# Altium schematic symbol library diode.schlib: 36 symbols
Pins are listed as number, name and electrical type; pins without a type are passive.

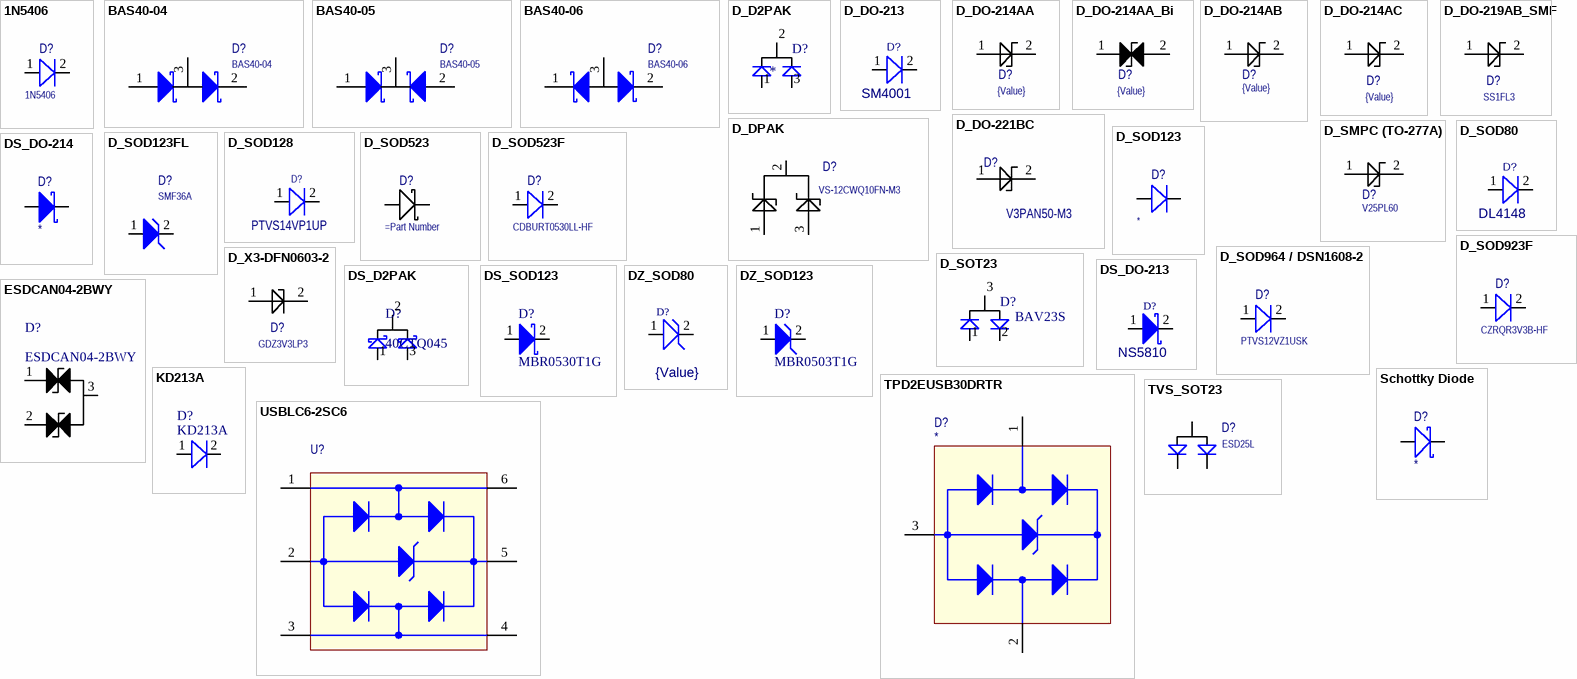
[diagram p0: symbols 1N5406 to USBLC6-2SC6]

## 1N5406
designator D?
Diode
footprint DO-201AD
pins: 1 A, 2 K

## BAS40-04
designator D?
Diode shotki two
footprint sot-23
pins: 1, 2, 3

## BAS40-05
designator D?
Diode shotki two
footprint sot-23
pins: 1, 2, 3

## BAS40-06
designator D?
Diode shotki two; Part: LBAS40-06LT1G
footprint sot-23
pins: 1, 2, 3

## D_D2PAK
designator D?
Diode
footprint D2PAK
pins: 1, 2, 3

## D_DO-213
designator D?, comment SM4001
Diode
footprint DIODE_DO-213AB
pins: 1 A, 2 K

## D_DO-214AA
designator D?, comment {Value}
Diode
footprint DO-214AA
pins: 1 A, 2 K

## D_DO-214AA_Bi
designator D?, comment {Value}
Diode
footprint DO-214AA
pins: 1 A, 2 K

## D_DO-214AB
designator D?, comment {Value}
Diode
footprint DO-214AB
pins: 1 A, 2 K

## D_DO-214AC
designator D?, comment {Value}
Diode
footprint DO-214AC
pins: 1 A, 2 K

## D_DO-219AB_SMF
designator D?, comment SS1FL3
Diode
footprint SMF (DO-219AB) (SODFL, 2-Leads, Body 1.90x2.9mm)
pins: 1 A, 2 K

## D_DO-221BC
designator D?, comment V3PAN50-M3
Diode
footprint DO-221BC
pins: 1 A, 2 K

## D_DPAK
designator D?, comment VS-12CWQ10FN-M3
Diode
footprint DPAK TO252AA
pins: 1 A, 2 K, 3 A

## D_SMPC (TO-277A)
designator D?, comment V25PL60
Diode
footprint SMPC (TO-277A)
pins: 1 A, 2 K

## D_SOD80
designator D?, comment DL4148
Diode
footprint SOD80
pins: 1 A, 2 K

## D_SOD123
designator D?
Diode; Part: *; Alternative Part: *
footprint SOD-123 (SOD-123; 2 Leads; Body 2.7 x 1.6 mm, (LxW))
footprint SOD123FL
pins: 1 A, 2 K

## D_SOD123FL
designator D?, comment SMF36A
footprint SOD123FL
pins: 1 A, 2 K

## D_SOD128
designator D?, comment PTVS14VP1UP
Diode
footprint SOD128
pins: 1 A, 2 K

## D_SOD523
designator D?
Diode; Part: *; Alternative Part: *
footprint SOD-523
pins: 1 K, 2 A

## D_SOD523F
designator D?, comment CDBURT0530LL-HF
Diode
footprint SOD523F
pins: 1 A, 2 K

## D_SOD923F
designator D?, comment CZRQR3V3B-HF
Diode
footprint SOD923F
pins: 1 A, 2 K

## D_SOD964 / DSN1608-2
designator D?, comment PTVS12VZ1USK
Diode
footprint SOD964 /DSN1608-2
pins: 1 A, 2 K

## D_SOT23
designator D?, comment BAV23S
Diode
footprint SOT23
pins: 1, 2, 3

## D_X3-DFN0603-2
designator D?, comment GDZ3V3LP3
Diode
footprint X3-DFN0603-2
pins: 1 A, 2 K

## DS_D2PAK
designator D?, comment 40CTQ045
Diode
footprint D2PAK
pins: 1, 2, 3

## DS_DO-213
designator D?, comment NS5810
Schottky Diode
footprint DIODE_DO-213AB
pins: 1 A, 2 K

## DS_DO-214
designator D?
Schottky Diode; Part: *
footprint DO-214AC
footprint DO-214AB
footprint DO-214AA
pins: 1 A, 2 K

## DS_SOD123
designator D?, comment MBR0530T1G
Schottky Diode
footprint SOD-123 (SOD-123; 2 Leads; Body 2.7 x 1.6 mm, (LxW))
pins: 1 A, 2 K

## DZ_SOD80
designator D?, comment {Value}
Diode
footprint SOD80C
pins: 1 A, 2 K

## DZ_SOD123
designator D?, comment MBR0503T1G
Surface Mount Zener Diode; Published: 8-Jun-2000; LatestRevisionDate: 17-Jul-2002; LatestRevisionNote: Re-released for DXP Platform.; DatasheetDocument: REV. L-2; PackageReference: SOD-123; Publisher: Altium Limited; ComponentLink1Description: Manufacturer Link; ComponentLink1URL: http://www.vishay.com/
footprint SOD-123 (SOD-123; 2 Leads; Body 2.7 x 1.6 mm, (LxW))
signal-integrity model BZT52C10
pins: 1 A, 2 K

## ESDCAN04-2BWY
designator D?
Automotive dual-line TVS in SOT323-3L for CAN bus; Part: ESDCAN04-2BWY
footprint SOT323-3L
pins: 1, 2, 3

## KD213A
designator D?
Diffusion silicon diode, 100kHz; Part: КД213А
footprint KD312A
pins: 1 A, 2 K

## Schottky Diode
designator D?
Schottky Diode; Part: *
footprint DO-214AC
footprint DO-214AB
footprint SOD523F - 2
pins: 1 A, 2 K

## TPD2EUSB30DRTR
designator D?
2-channel ESD solution for SuperSpeed USB 3.0 interface 3-SOT-9X3 -40 to 85; MP: TPD2EUSB30DRTR; MF: Texas Instruments; Package: SOT-9X3-3 Texas Instruments; Purchase-URL: https://pricing.snapeda.com/search/part/TPD2EUSB30DRTR/?ref=eda; Value: *; Availability: Warning; SnapEDA_Link: https://www.snapeda.com/parts/TPD2EUSB30DRTR/Texas%20Instruments/view-part/189118/?ref=snap; Price: None
footprint SOT-9X3-3
pins: 1 I/O1_IN, 2 GND, 3 I/O2_IN

## TVS_SOT23
designator D?, comment ESD25L
Diode; Part: ESDA25L; JLCPCBPart: C95343
footprint SOT23
pins: 1, 2, 3

## USBLC6-2SC6
designator U?  (value not drawn)
17V Clamp 5A (8/20Âµs) Ipp Tvs Diode Surface Mount SOT-23-6; MF: STMicroelectronics; MP: USBLC6-2SC6; Value: *; Check_prices: https://www.snapeda.com/parts/USBLC6-2SC6/STMicroelectronics/view-part/?ref=eda; Purchase-URL: https://pricing.snapeda.com/search/part/USBLC6-2SC6/?ref=eda; Price: None; Availability: In Stock; Package: SOT-23-6 STMicroelectronics; SnapEDA_Link: https://www.snapeda.com/parts/USBLC6-2SC6/STMicroelectronics/view-part/?ref=snap; Part: USBLC6-2SC6; Alternative Part: *
footprint SOT95P280X145-6N
pins: 1 I/O1_IN, 2 GND, 3 I/O2_IN, 4 I/O2_OUT, 5 VBUS, 6 I/O1_OUT